# Altium footprint library XIUZHEN_two.PcbLib: 26 footprints (part 2 of 2)
Each footprint in its own frame and in the unit in brackets; x right, y up, seen from the top. Pads: shape width x height; smd on the part's side, far side on the other; paste and mask are expansions set on the pad; w line width, h text height; cw(c..) or ccw(c..) is an arc to the next point about the centre after c.
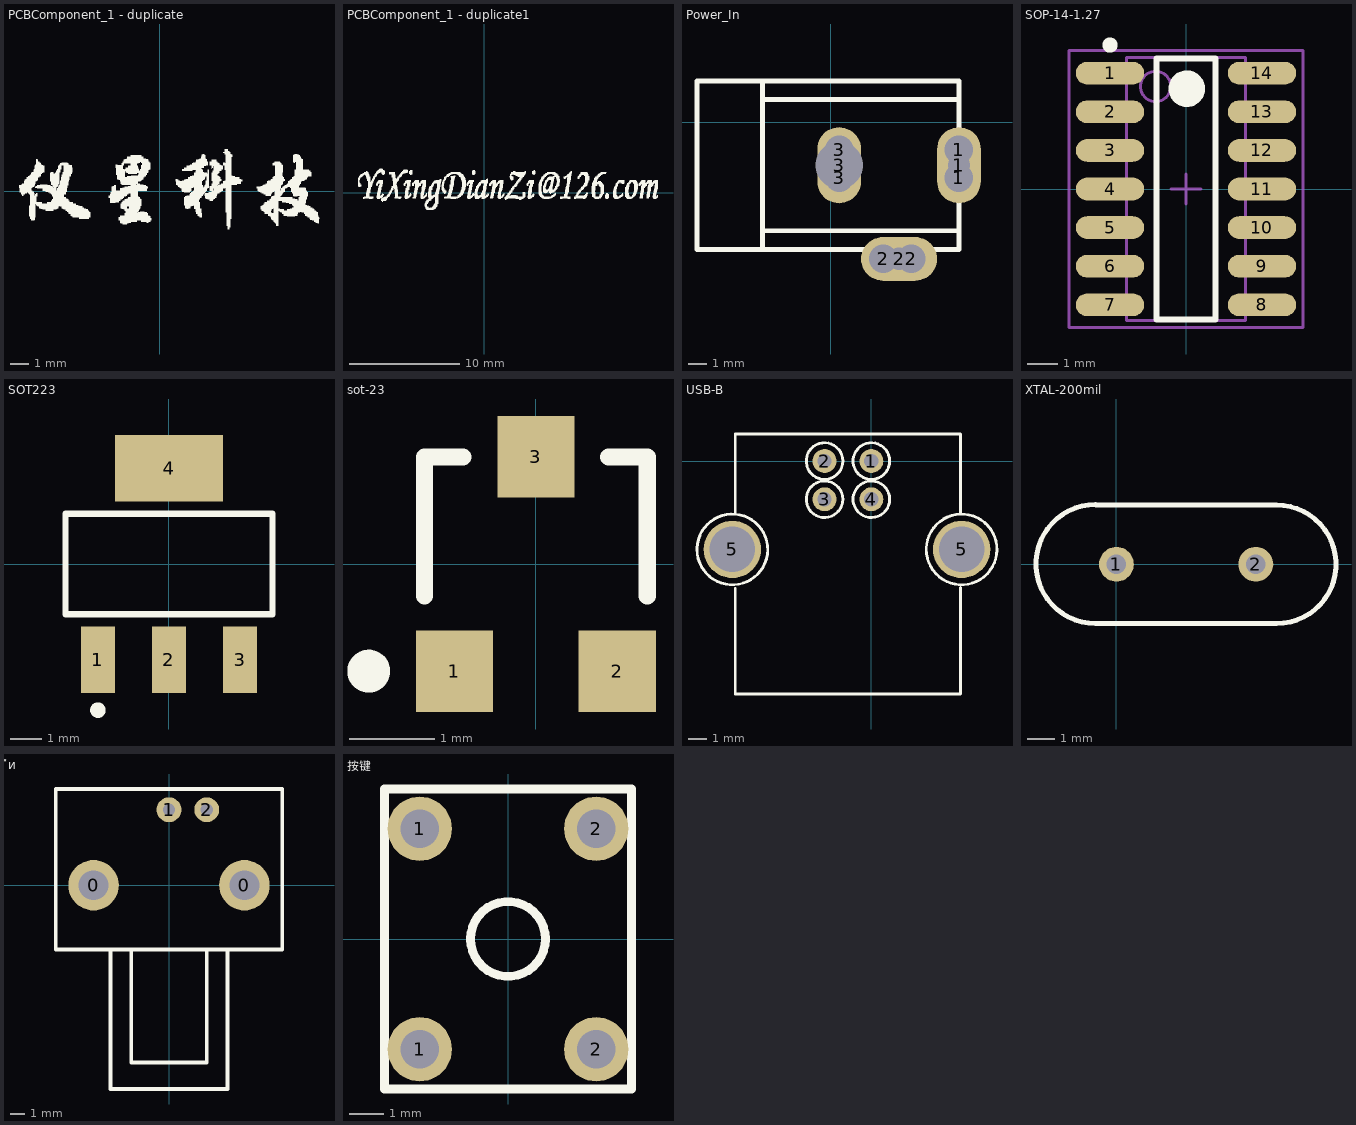
[diagram p1: the footprints below, top view; thin cyan lines are the x and y axes]

## PCBComponent_1 - duplicate [mil]
Top Overlay:
  drawing of 1410 lines, arcs and shapes, not listed

## PCBComponent_1 - duplicate1 [mil]
Top Overlay:
  drawing of 2920 lines, arcs and shapes, not listed

## Power_In [mil]
pads (9):
  rect 60x60 hole 60: 1(270,-116) 2(170,-287) 3(18,-57)
  oval 92x160 hole 47: 1(270,-90)
  rect 50x60 hole 60: 1(270,-57) 3(18,-116)
  rect 60x50 hole 60: 2(111,-287)
  oval 160x92 hole 47: 2(144,-287)
  oval 92x160 hole 100: 3(18,-90)
Top Overlay:
  lines w10: -143,-267 -143,87 ; -143,-228 270,-228 ; -143,48 270,48 ; -281,-267 -281,87 270,87 270,-267 -281,-267

## SOP-14-1.27 [mm] "TL082  14-PIN"
height 1.75
pads (14):
  oval 2.25x0.75 smd: 1(-2.5,3.81) 2(-2.5,2.54) 3(-2.5,1.27) 4(-2.5,0) 5(-2.5,-1.27) 6(-2.5,-2.54) 7(-2.5,-3.81) 8(2.5,-3.81) 9(2.5,-2.54) 10(2.5,-1.27) 11(2.5,0) 12(2.5,1.27) 13(2.5,2.54) 14(2.5,3.81)
Top Overlay:
  circle w0.6: c0.025,3.3 r0.3
  circle w0.25: c-2.5,4.735 r0.125
  lines w0.2: -0.975,-4.3 0.975,-4.3 0.975,4.3 -0.975,4.3 -0.975,-4.3
Mechanical 13:
  circle w0.1: c-1,3.375 r0.5
  lines w0.1: -1.95,-4.325 1.95,-4.325 1.95,4.325 -1.95,4.325 -1.95,-4.325
Mechanical 15:
  lines w0.1: -0.5,0 0.5,0 ; 0,-0.5 0,0.5 ; -3.85,-4.55 3.85,-4.55 3.85,4.55 -3.85,4.55 -3.85,-4.55
3D body: height 1.75, standoff 0.22, extent -1.95,-4.325 1.95,4.325

## SOT223 [mm] "SOT-223/SC-73; 4 Leads; Body 6.7 x 7.3 mm, inc. leads (LxW max)"
height 1.8
pads (4):
  rect 1.1x2.15 smd: 1(-2.3,-3.1) 2(0,-3.1) 3(2.3,-3.1)
  rect 3.5x2.15 smd: 4(0,3.1)
Top Overlay:
  circle w0.25: c-2.3,-4.725 r0.125
  lines w0.2: -3.35,-1.625 -3.35,1.625 3.35,1.625 3.35,-1.625 -3.35,-1.625

## sot-23 [mm] "SOT-23; 3 Leads; Body 3.0 x 2.6 mm, inc. leads (LxW max)"
height 1.1
pads (3):
  rect 0.9x0.95 smd: 1(-0.95,-1.25) 2(0.95,-1.25) 3(0,1.25)
Top Overlay:
  circle w0.25: c-1.95,-1.25 r0.125
  lines w0.2: -1.3,-0.375 -1.3,1.25 -0.85,1.25 ; 0.85,1.25 1.3,1.25 1.3,-0.375

## USB-B [mil]
height 43.31
pads (6):
  round 50 hole 30: 1(0,0) 2(-98,0) 3(-98,-80) 4(0,-80)
  round 120 hole 95: 5(-291,-185) 5(189,-185)
Top Overlay:
  circle w6: c0,-80 r38.3
  circle w6: c0,0 r38.3
  circle w6: c-98,-80 r38.3
  circle w6: c-98,0 r38.3
  lines w6: -365.04,-185 ccw(c-291,-185) -365,-182.5 ; -285,-266.5 -285,-488 187,-488 187,-264.5 ; -285,-108.5 -285,57 187,57 187,-110.5 ; 114.96,-185 ccw(c189,-185) 115,-182.5

## XTAL-200mil [mil]
height 135
pads (2):
  round 50 hole 28: 1(0,0) 2(200,0)
Top Overlay:
  lines w7: -30,-85 cw(c-30,0.44) -30,85.88 -29.12,85 230,85 cw(c230,0) 230,-85 -30,-85

## ̽ͷ [mil]
pads (4):
  round 133.86 hole 78.74: 0(-200,0) 0(200,0)
  round 66 hole 33: 1(0,200) 2(100,200)
Top Overlay:
  lines w10: -155,-170 -155,-540 155,-540 155,-170 ; -100,-170 -100,-470 100,-470 100,-170 ; -300,-170 300,-170 300,255 -300,255 -300,-170

## 按键 [mm]
height 0.254
pads (4):
  round 1.85 hole 1.1: 1(-2.54,-3.175) 1(-2.54,3.175) 2(2.54,-3.175) 2(2.54,3.175)
Top Overlay:
  circle w0.254: c0,0 r1.078
  lines w0.254: -3.556,-4.318 3.556,-4.318 3.556,4.318 -3.556,4.318 -3.556,-4.318